# Altium schematic symbol library Polar_Conn.SchLib: 1 symbol
Pins are listed as number, name and electrical type; pins without a type are passive.

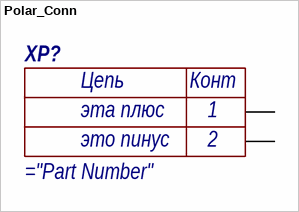
[diagram p0: symbol Polar_Conn]

## Polar_Conn
designator XP?  Value2: это пинус  Value1: эта плюс
полярный коннектор для силовых разъемов
pins: N, P
text: Цепь; Конт; 1; 2